# EAGLE library part MUX_QUAD (library OTHERTEST)
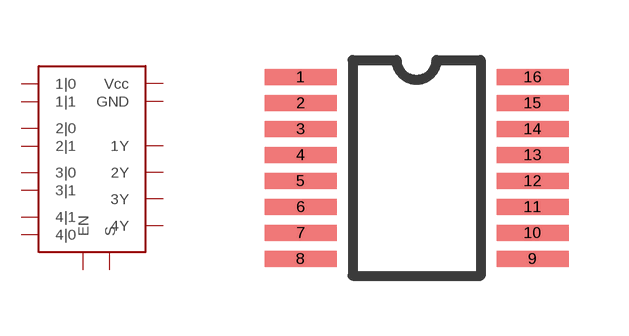
[diagram p5: symbol with the pads of TSSOP-16; footprint TSSOP-16]

Designator prefix U

## MUX_QUAD (DATASHEET: https://assets.nexperia.com/documents/data-sheet/74LVC157A.pdf; MANUFACTURER: Nexperia; MPN: 74LVC157A)  [TSSOP-16]
1  S  in
2  1|0  in
3  1|1  in
4  1Y  in
5  2|0  in
6  2|1  in
7  2Y  out
8  GND  pwr
9  3Y  out
10  3|1  in
11  3|0  in
12  4Y  out
13  4|1  in
14  4|0  in
15  EN  in
16  Vcc  pwr

## Footprint TSSOP-16 (pad centres in mm)
smd 1.8 x 0.4: 1 -2.9,2.275; 2 -2.9,1.625; 3 -2.9,0.975; 4 -2.9,0.325; 5 -2.9,-0.325; 6 -2.9,-0.975; 7 -2.9,-1.625; 8 -2.9,-2.275; 9 2.9,-2.275; 10 2.9,-1.625; 11 2.9,-0.975; 12 2.9,-0.325; 13 2.9,0.325; 14 2.9,0.975; 15 2.9,1.625; 16 2.9,2.275